# Altium footprint library SN74LVCC4245APWR.PcbLib: 3 footprints
Each footprint in its own frame and in the unit in brackets; x right, y up, seen from the top. Pads: shape width x height; smd on the part's side, far side on the other; paste and mask are expansions set on the pad; w line width, h text height; cw(c..) or ccw(c..) is an arc to the next point about the centre after c.
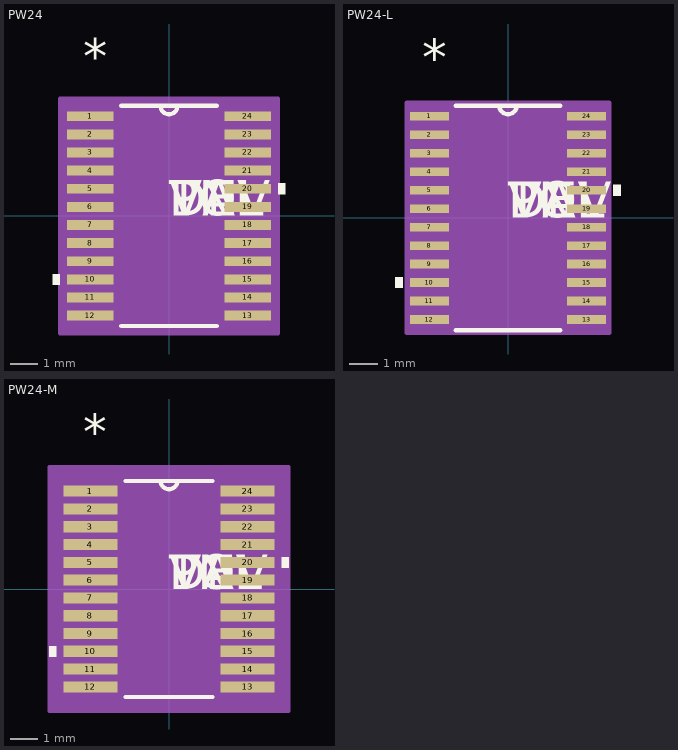
[diagram p0: the footprints below, top view; thin cyan lines are the x and y axes]

## PW24 [mil]
pads (24):
  rect 66x14 smd: 1(-111,140.75) 2(-111,115.16) 3(-111,89.57) 4(-111,63.98) 5(-111,38.39) 6(-111,12.8) 7(-111,-12.8) 8(-111,-38.39) 9(-111,-63.98) 10(-111,-89.57) 11(-111,-115.16) 12(-111,-140.75) 13(111,-140.75) 14(111,-115.16) 15(111,-89.57) 16(111,-63.98) 17(111,-38.39) 18(111,-12.8) 19(111,12.8) 20(111,38.39) 21(111,63.98) 22(111,89.57) 23(111,115.16) 24(111,140.75)
Top Overlay:
  region: -154,-82.07 -164,-82.07 -164,-97.07 -154,-97.07
  region: 154,45.89 164,45.89 164,30.89 154,30.89
  lines w6: -67.44,-155.5 67.44,-155.5 ; -67.44,155.5 67.44,155.5 ; -12,155.5 ccw(c0,155.5) 12,155.5
  text "*" at -121,199.75 h50
  text "PN" at 0,0 h50
  text "DEV" at 0,0 h50
  text "VAL" at 0,0 h50
  text "TOL" at 0,0 h50
Mechanical 13:
  lines w0: -12,155.5 ccw(c0,155.5) 12,155.5
  text "*" at -121,199.75 h50
  text "RefDes2" at 0,0 h50
Mechanical 15:
  region: 154,-165.5 -154,-165.5 -154,165.5 154,165.5
  lines w6: -154,-165.5 -154,165.5 154,165.5 154,-165.5 -154,-165.5
3D body "PW24.stp": height 47.1, standoff 0, extent -130,-155.5 130,155.5

## PW24-L [mil]
pads (24):
  rect 54x12 smd: 1(-109,140.75) 2(-109,115.16) 3(-109,89.57) 4(-109,63.98) 5(-109,38.39) 6(-109,12.8) 7(-109,-12.8) 8(-109,-38.39) 9(-109,-63.98) 10(-109,-89.57) 11(-109,-115.16) 12(-109,-140.75) 13(109,-140.75) 14(109,-115.16) 15(109,-89.57) 16(109,-63.98) 17(109,-38.39) 18(109,-12.8) 19(109,12.8) 20(109,38.39) 21(109,63.98) 22(109,89.57) 23(109,115.16) 24(109,140.75)
Top Overlay:
  region: -146,-82.07 -156,-82.07 -156,-97.07 -146,-97.07
  region: 146,45.89 156,45.89 156,30.89 146,30.89
  lines w6: -72.25,-155.5 72.25,-155.5 ; -72.25,155.5 72.25,155.5 ; -12,155.5 ccw(c0,155.5) 12,155.5
  text "*" at -119,197.75 h50
  text "PN" at 0,0 h50
  text "DEV" at 0,0 h50
  text "VAL" at 0,0 h50
  text "TOL" at 0,0 h50
Mechanical 13:
  lines w0: -12,155.5 ccw(c0,155.5) 12,155.5
  text "*" at -119,197.75 h50
  text "RefDes2" at 0,0 h50
Mechanical 15:
  region: 140,-159.5 -140,-159.5 -140,159.5 140,159.5
  lines w6: -140,-159.5 -140,159.5 140,159.5 140,-159.5 -140,-159.5
3D body "PW24-L.stp": height 47.1, standoff 0, extent -130,-155.5 130,155.5

## PW24-M [mil]
pads (24):
  rect 78x16 smd: 1(-113,140.75) 2(-113,115.16) 3(-113,89.57) 4(-113,63.98) 5(-113,38.39) 6(-113,12.8) 7(-113,-12.8) 8(-113,-38.39) 9(-113,-63.98) 10(-113,-89.57) 11(-113,-115.16) 12(-113,-140.75) 13(113,-140.75) 14(113,-115.16) 15(113,-89.57) 16(113,-63.98) 17(113,-38.39) 18(113,-12.8) 19(113,12.8) 20(113,38.39) 21(113,63.98) 22(113,89.57) 23(113,115.16) 24(113,140.75)
Top Overlay:
  region: -162,-82.07 -172,-82.07 -172,-97.07 -162,-97.07
  region: 162,45.89 172,45.89 172,30.89 162,30.89
  lines w6: -62.77,-155.5 62.77,-155.5 ; -62.77,155.5 62.77,155.5 ; -12,155.5 ccw(c0,155.5) 12,155.5
  text "*" at -123,201.75 h50
  text "PN" at 0,0 h50
  text "DEV" at 0,0 h50
  text "VAL" at 0,0 h50
  text "TOL" at 0,0 h50
Mechanical 13:
  lines w0: -12,155.5 ccw(c0,155.5) 12,155.5
  text "*" at -123,201.75 h50
  text "RefDes2" at 0,0 h50
Mechanical 15:
  region: 172,-175.5 -172,-175.5 -172,175.5 172,175.5
  lines w6: -172,-175.5 -172,175.5 172,175.5 172,-175.5 -172,-175.5
3D body "PW24-M.stp": height 47.1, standoff 0, extent -130,-155.5 130,155.5